# Altium schematic symbol library Semiconductor.SchLib: 45 symbols (part 2 of 2)
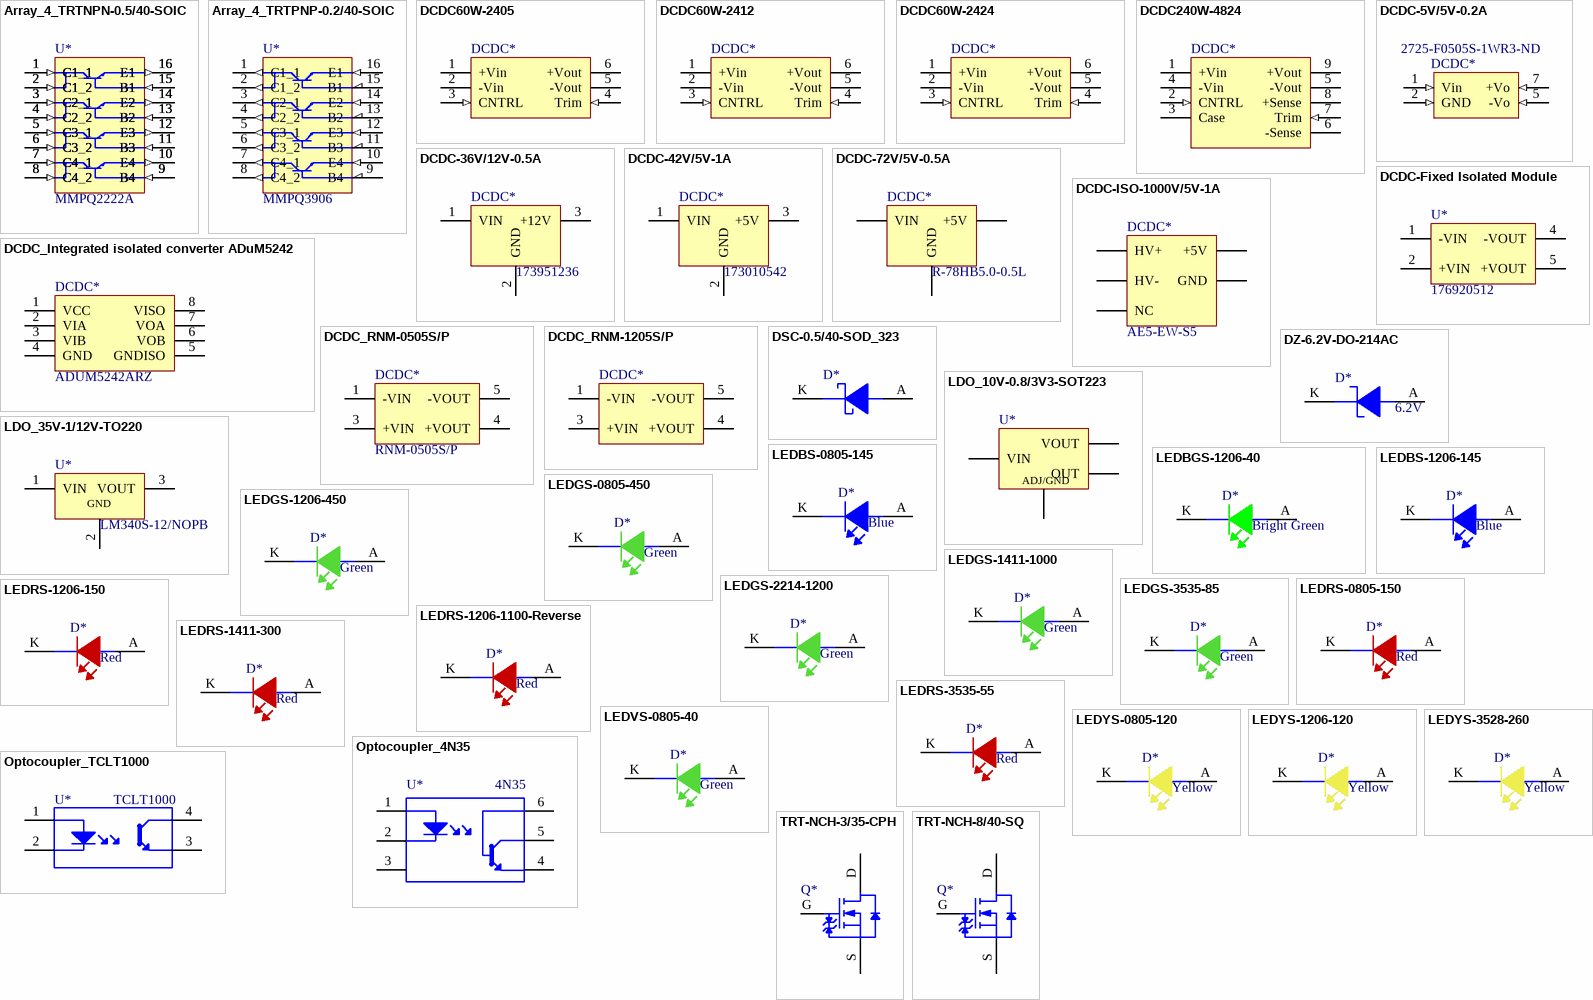
[diagram p2: symbols Array_4_TRTNPN-0.5/40-SOIC to TRT-NCH-8/40-SQ]

## LEDRS-1411-300
designator D*, comment Color: Red  (hidden comment: 150141RS73100)
Led, Red, 625 Nm, 2 V, 30 Ma, 300 Mcd Rohs Compliant: Yes; Manufacturer: Wurth Electronics; Luminous Intensity: 300mcd; Viewing Angle: 120°; Forward Voltage: 2V; Lens Style: Clear,Round; Wavelength: 625nm; Forward Current: 30mA; Test Current: 20mA; .Creator: GP; Category: Diode LED; ComponentLink1Description: Datasheet; ComponentLink1URL: https://www.we-online.com/catalog/datasheet/150141RS73100.pdf; ComponentLink2Description: Where buy it; ComponentLink2URL: https://www.we-online.com/catalog/en/WL-SMTW?sq=150141RS73100#150141RS73100; Supplier 1: Digi-Key; Manufacturer Part Number: 150141RS73100; RoHS: Yes; Stock 1: 6040; Pricing 1: 1=0,19000, 50=0,18200, 100=0,15800, 500=0,12100 (USD); Mount: Surface Mount; Case/Package: 3528; Case Code (Metric): 3528; Case Code (Imperial): 1411; Min Operating Temperature: -40°C; Max Operating Temperature: 85°C; Package Quantity: 2000; Packaging: Tape and Reel; Dominant Wavelength: 625nm; Length: 3.5mm; Width: 2.8mm; Height: 1.9mm; RoHS Compliant: Yes; REACH SVHC: Unknown; Supplier Part Number 1: 732-5000-1-ND
footprint LED_3528-WE (Molded Capacitor, 2-Leads, Body 3,20x2,70mm, IPC Low Density)
pins: A, K

## LEDRS-3535-55
designator D*, comment Color: Red  (hidden comment: 150353RS74500)
High Brightness Led, Wl-Smdc Series, 625 Nm, Red, 55 Lm, 350 Ma; Manufacturer: Wurth Electronics; Forward Current: 700mA; Wavelength: 625nm; Test Temperature: 25°C; Viewing Angle: 125°; Thermal Resistance of Package: 10°C/W; Luminous Flux: 55lm; Test Current: 350mA; Forward Voltage: 2.2V; .Creator: GP; Supplier 1: RSComponents; Manufacturer Part Number: 150353RS74500; RoHS: Yes; Stock 1: 1; Pricing 1: 5=1,40500 (USD); Mount: Surface Mount; Case/Package: SMD/SMT; Packaging: Cut Tape; Max Current Rating: 700mA; REACH SVHC: Unknown; RoHS Compliant: Yes; ComponentLink1URL: http://www.farnell.com/datasheets/1886833.pdf?src-supplier=Farnell; ComponentLink1Description: http://www.farnell.com/datasheets/1886833.pdf?src-supplier=Farnell; ComponentLink2URL: http://www.farnell.com/datasheets/1886833.pdf?src-supplier=Element14; ComponentLink2Description: http://www.farnell.com/datasheets/1886833.pdf?src-supplier=Element14; Supplier Part Number 1: 9008911; ComponentLink3Description: Where buy it; ComponentLink3URL: https://www.we-online.com/catalog/en/WL-SMDC?sq=150353rs74500&sp=https%3A%2F%2Fwww.we-online.com%2Fweb%2Fen%2Fwuerth_elektronik%2Fsearchpage.php%3Fsearch%3D150353rs74500#150353RS74500
footprint LED_3535_WE (DFN, 2-Leads, Body 3,25x3,25mm, Pitch 2,28mm, IPC Medium Density)
pins: A, K

## LEDVS-0805-40
designator D*, comment Color: Green  (hidden comment: 150080VS75000)
Led, Green, 570 Nm, 2 V, 30 Ma, 40 Mcd Rohs Compliant: Yes; Manufacturer 1: Wurth Electronics; Luminous Intensity: 40mcd; Forward Current: 30mA; Forward Voltage: 2V; Viewing Angle: 140°; Wavelength: 570nm; Lens Style: Clear,Rectangular; Test Current: 20mA; .Creator: DR; ComponentLink1Description: Datasheet; ComponentLink1URL: https://www.we-online.com/catalog/datasheet/150080VS75000.pdf; ComponentLink2Description: Where buy it; ComponentLink2URL: https://katalog.we-online.de/en/led/WL-SMCW/150080VS75000; Supplier 1: RSComponents; Manufacturer Part Number 1: 150080VS75000; RoHS: Yes; Category: LEDs; Stock 1: 850; Pricing 1: 50=0,19300, 500=0,12900, 1000=0,12300, 2000=0,11700, 4000=0,11100 (USD); Mount: Surface Mount; Case/Package: 0805; Case Code (Metric): 2012; Case Code (Imperial): 0805; Min Operating Temperature: -40°C; Max Operating Temperature: 85°C; Package Quantity: 4000; Packaging: Tape and Reel; Dominant Wavelength: 570nm; Length: 2mm; Width: 1.25mm; Height: 0.7mm; REACH SVHC: Unknown; ComponentLink3URL: https://datasheet.ciiva.com/22656/150080vs75000-22656966.pdf?src-supplier=Element14; ComponentLink3Description: https://datasheet.ciiva.com/22656/150080vs75000-22656966.pdf?src-supplier=Element14; ComponentLink4URL: https://datasheet.ciiva.com/29279/759437-da-01-en-chipled-0805-w-kl-h-gruen-150080vs7500-29279047.pdf?src-supplier=Conrad; ComponentLink4Description: https://datasheet.ciiva.com/29279/759437-da-01-en-chipled-0805-w-kl-h-gruen-150080vs7500-29279047.pdf?src-supplier=Conrad; ComponentLink5URL: https://datasheet.ciiva.com/29563/150080vs75000-29563018.pdf?src-supplier=Digi-Key; ComponentLink5Description: https://datasheet.ciiva.com/29563/150080vs75000-29563018.pdf?src-supplier=Digi-Key; Supplier Part Number 1: 8154237
footprint LED_0805_WE (SODFL, 2-Leads, Body 1,60x3,20mm, IPC Medium Density)
pins: A, K

## LEDYS-0805-120
designator D*, comment Color: Yellow  (hidden comment: 150080YS75000)
2 V Yellow LED 2012 (0805) SMD, Wurth Elektronik WL-SMCW 150080YS75000; Manufacturer 1: Wurth Electronics; Luminous Intensity: 120mcd; Forward Current: 30mA; Forward Voltage: 2V; Viewing Angle: 140°; Wavelength: 590nm; Lens Style: Clear,Rectangular; Test Current: 20mA; .Creator: DR; ComponentLink1Description: Datasheet; ComponentLink1URL: https://www.we-online.com/catalog/datasheet/150080YS75000.pdf; ComponentLink2Description: Where buy it; ComponentLink2URL: https://katalog.we-online.de/en/led/WL-SMCW/150080YS75000; Supplier 1: RSComponents; Manufacturer Part Number 1: 150080YS75000; RoHS: Yes; Category: LEDs; Stock 1: 2100; Pricing 1: 50=0,19300, 500=0,12900, 750=0,12300, 1500=0,11700, 3000=0,11100 (USD); Mount: Surface Mount; Case/Package: 0805; Case Code (Metric): 2012; Case Code (Imperial): 0805; Min Operating Temperature: -40°C; Max Operating Temperature: 85°C; Package Quantity: 4000; Packaging: Tape and Reel; Dominant Wavelength: 590nm; Length: 2mm; Width: 1.25mm; Height: 0.7mm; REACH SVHC: Unknown; RoHS Compliant: Yes; ComponentLink3URL: https://datasheet.ciiva.com/23843/150080ys75000-23843256.pdf?src-supplier=Newark; ComponentLink3Description: https://datasheet.ciiva.com/23843/150080ys75000-23843256.pdf?src-supplier=Newark; ComponentLink4URL: https://datasheet.ciiva.com/29279/759438-da-01-en-chipled-0805-w-kl-gelb-150080ys75000-29279034.pdf?src-supplier=Conrad; ComponentLink4Description: https://datasheet.ciiva.com/29279/759438-da-01-en-chipled-0805-w-kl-gelb-150080ys75000-29279034.pdf?src-supplier=Conrad; ComponentLink5URL: https://datasheet.ciiva.com/22656/1911353-22656971.pdf?src-supplier=Element14; ComponentLink5Description: https://datasheet.ciiva.com/22656/1911353-22656971.pdf?src-supplier=Element14; ComponentLink6URL: https://datasheet.ciiva.com/29563/150080ys75000-29563019.pdf?src-supplier=Digi-Key; ComponentLink6Description: https://datasheet.ciiva.com/29563/150080ys75000-29563019.pdf?src-supplier=Digi-Key; ComponentLink7URL: https://datasheet.ciiva.com/29563/150080ys75000-29563020.pdf?src-supplier=Digi-Key; ComponentLink7Description: https://datasheet.ciiva.com/29563/150080ys75000-29563020.pdf?src-supplier=Digi-Key; ComponentLink8URL: https://datasheet.ciiva.com/29563/150080ys75000-29563021.pdf?src-supplier=Digi-Key; ComponentLink8Description: https://datasheet.ciiva.com/29563/150080ys75000-29563021.pdf?src-supplier=Digi-Key; Supplier Part Number 1: 8154231
footprint LED_0805_WE (SODFL, 2-Leads, Body 1,60x3,20mm, IPC Medium Density)
pins: A, K

## LEDYS-1206-120
designator D*, comment Color: Yellow  (hidden comment: 150120YS75000)
Led, Yellow, 590 Nm, 2 V, 30 Ma, 120 Mcd Rohs Compliant: Yes; Manufacturer: Wurth Electronics; Wavelength: 590nm; Luminous Intensity: 120mcd; Forward Current: 30mA; Viewing Angle: 140°; Lens Style: Clear,Rectangular; Test Current: 20mA; Forward Voltage: 2V; .Creator: GP; Supplier 1: Newark; Manufacturer Part Number: 150120YS75000; RoHS: Yes; Category: LEDs; Stock 1: 7333; Pricing 1: 1=0,22700, 5=0,22700, 10=0,22100, 25=0,21300, 50=0,20700, 100=0,18200, 500=0,16200 (USD); Mount: Surface Mount; Case/Package: 1206; Case Code (Metric): 3216; Case Code (Imperial): 1206; Min Operating Temperature: -40°C; Max Operating Temperature: 85°C; Package Quantity: 3000; Packaging: Tape and Reel; Dominant Wavelength: 590nm; Length: 3.2mm; Width: 1.6mm; Height: 0.68mm; REACH SVHC: Unknown; RoHS Compliant: Yes; ComponentLink1URL: https://datasheet.ciiva.com/29561/150120ys75000-29561868.pdf?src-supplier=Digi-Key; ComponentLink1Description: https://datasheet.ciiva.com/29561/150120ys75000-29561868.pdf?src-supplier=Digi-Key; ComponentLink2URL: https://datasheet.ciiva.com/29279/759445-da-01-en-chipled-1206-w-kl-gelb-150120ys75000-29279074.pdf?src-supplier=Conrad; ComponentLink2Description: https://datasheet.ciiva.com/29279/759445-da-01-en-chipled-1206-w-kl-gelb-150120ys75000-29279074.pdf?src-supplier=Conrad; Supplier Part Number 1: 95W3811; ComponentLink3Description: Where buy it; ComponentLink3URL: https://www.we-online.com/catalog/en/WL-SMCW?sq=150120YS75000#150120YS75000
footprint LED_1206_WE (SODFL, 2-Leads, Body 1,60x3,20mm, IPC Medium Density)
pins: A, K

## LEDYS-3528-260
designator D*, comment Color: Yellow  (hidden comment: 150141YS73100)
Led, Yellow, 590 Nm, 2 V, 30 Ma, 300 Mcd Rohs Compliant: Yes; Manufacturer: Wurth Electronics; Viewing Angle: 120°; Lens Style: Clear,Round; Wavelength: 590nm; Luminous Intensity: 300mcd; Forward Voltage: 2V; Forward Current: 30mA; Test Current: 20mA; .Creator: GP; Category: Diode LED; ComponentLink1Description: Datasheet; ComponentLink1URL: https://www.we-online.com/catalog/datasheet/150141YS73100.pdf; ComponentLink2Description: Where buy it; ComponentLink2URL: https://www.we-online.com/catalog/en/WL-SMTW?sq=150141GS73100#150141GS73100; Supplier 1: RSComponents; Manufacturer Part Number: 150141YS73100; RoHS: Yes; Stock 1: 1; Pricing 1: 100=0,18000, 200=0,17000, 500=0,12400, 1000=0,11900, 2000=0,11200 (USD); Mount: Surface Mount; Case/Package: 3528; Number of Pins: 2; Min Operating Temperature: -40°C; Max Operating Temperature: 85°C; Package Quantity: 2000; Packaging: Tape and Reel; Dominant Wavelength: 590nm; Length: 3.2mm; Width: 2.8mm; Height: 2.1mm; REACH SVHC: Unknown; RoHS Compliant: Yes; Supplier Part Number 1: 8154322
footprint LED_3528-WE (Molded Capacitor, 2-Leads, Body 3,20x2,70mm, IPC Low Density)
pins: A, K

## Optocoupler_4N35
designator U*, comment 4N35
Optocoupler DC-IN 1-CH Transistor With Base DC-OUT 6-Pin PDIP SMD T/R; Manufacturer: Vishay Lite-On; Manufacturer Part Number: CNY17-4S-TA1; Number of Channels: 1; Max Power Dissipation: 250mW; Isolation Voltage: 5kV; Output Voltage: 70V; Forward Voltage: 1.65V; Rise Time: 10000ns; Collector Emitter Saturation Voltage: 300mV; Max Input Current: 60mA; Reverse Breakdown Voltage: 6V; Input Type: DC; Current Transfer Ratio: 320%; Output Current per Channel: 150mA; .Creator: DO; Supplier 1: RSComponents; RoHS: Yes; Category: Optocouplers; Stock 1: 1; Pricing 1: 50=0,27200, 250=0,25600, 500=0,24000, 1250=0,22500, 2500=0,21200 (USD); Mount: Surface Mount; Case/Package: SMD/SMT; Number of Pins: 6; Min Operating Temperature: -55°C; Max Operating Temperature: 100°C; Packaging: Tape and Reel; Package Quantity: 1000; Power Dissipation: 250mW; Collector Emitter Voltage (VCEO): 70V; Max Output Voltage: 70V; Number of Elements: 1; Series: -; Forward Current: 60mA; Collector-emitter Voltage-Max: 300mV; Fall Time: 10000ns; Number of Circuits: 1; Max Collector Current: 150mA; Radiation Hardening: No; Lead Free: Lead Free; RoHS Compliant: Yes; ComponentLink1URL: https://datasheet.ciiva.com/15118/getdatasheetpartid-187668-15118874.pdf?src-supplier=Verical; ComponentLink1Description: https://datasheet.ciiva.com/15118/getdatasheetpartid-187668-15118874.pdf?src-supplier=Verical; ComponentLink2URL: https://datasheet.ciiva.com/6573/s-110-cny17-6573733.pdf?src-supplier=Digi-Key; ComponentLink2Description: https://datasheet.ciiva.com/6573/s-110-cny17-6573733.pdf?src-supplier=Digi-Key; Supplier Part Number 1: 1278380P; ComponentLink3Description: Where buy it; ComponentLink3URL: https://es.rs-online.com/web/p/circuitos-integrados-optoacopladores/1257571
footprint Optocoupler_4N35 (SOP, 6-Leads, Body 7,30x6,50mm, Pitch 2,54mm, IPC Medium Density)
pins: 1 A, 2 K, 3 C, 4 E, 5 E, 6 E

## Optocoupler_TCLT1000
designator U*  Supplier Part Number 1: TCLT1000
Optocoupler DC-IN 1-CH Transistor DC-OUT 4-Pin SOP T/R; Manufacturer: Vishay Semiconductors; Number of Channels: 1; Collector Emitter Voltage (VCEO): 70V; Reverse Breakdown Voltage: 6V; Forward Voltage: 1.6V; Forward Current: 60mA; Max Power Dissipation: 250mW; Rise Time: 3s; Output Current per Channel: 50mA; Collector Emitter Saturation Voltage: 300mV; Isolation Voltage: 5kV; Fall Time: 4.7s; Current Transfer Ratio: 600%; Approvals: UL; Supplier 1: Arrow Electronics; Manufacturer Part Number: TCLT1000; RoHS: Yes; Category: Optocouplers; Stock 1: 9000; Pricing 1: 3000=0,24220, 6000=0,23440 (USD); Mount: Surface Mount,PCB; Case/Package: SOP; Number of Pins: 4; Min Operating Temperature: -40°C; Max Operating Temperature: 100°C; Package Quantity: 1; Packaging: Tape and Reel; Output Voltage: 70V; Max Output Voltage: 70V; Max Collector Current: 50mA; Number of Elements: 1; Power Dissipation: 250mW; Max Input Current: 60mA; Collector Emitter Breakdown Voltage: 70V; Input Current: 50mA; Voltage Rating (DC): 70V; Radiation Hardening: No; REACH SVHC: Unknown; Lead Free: Lead Free; RoHS Compliant: Yes; ComponentLink1URL: https://datasheet.ciiva.com/11771/0900766b80e30925-11771693.pdf?src-supplier=RSComponents; ComponentLink1Description: https://datasheet.ciiva.com/11771/0900766b80e30925-11771693.pdf?src-supplier=RSComponents; ComponentLink2URL: https://datasheet.ciiva.com/8040/52022-8040864.pdf?src-supplier=Element14; ComponentLink2Description: https://datasheet.ciiva.com/8040/52022-8040864.pdf?src-supplier=Element14; ComponentLink3URL: https://datasheet.ciiva.com/15118/getdatasheetpartid-145514-15118804.pdf?src-supplier=Verical; ComponentLink3Description: https://datasheet.ciiva.com/15118/getdatasheetpartid-145514-15118804.pdf?src-supplier=Verical; ComponentLink4URL: https://datasheet.ciiva.com/26321/tclt1000-26321177.pdf?src-supplier=Element14; ComponentLink4Description: https://datasheet.ciiva.com/26321/tclt1000-26321177.pdf?src-supplier=Element14; ComponentLink5URL: https://datasheet.ciiva.com/5783/tclt1000-5783658.pdf?src-supplier=Farnell; ComponentLink5Description: https://datasheet.ciiva.com/5783/tclt1000-5783658.pdf?src-supplier=Farnell; ComponentLink6URL: https://datasheet.ciiva.com/8091/tclt1000-8091688.pdf?src-supplier=Avnet; ComponentLink6Description: https://datasheet.ciiva.com/8091/tclt1000-8091688.pdf?src-supplier=Avnet; ComponentLink7URL: https://datasheet.ciiva.com/16493/tclt1000-16493446.pdf?src-supplier=Future+Electronics; ComponentLink7Description: https://datasheet.ciiva.com/16493/tclt1000-16493446.pdf?src-supplier=Future+Electronics
footprint Optocoupler_TCLT1000
pins: 1 A, 2 K, 3 C, 4 E

## TRT-NCH-3/35-CPH
designator Q*, comment CPH3455-TL-H  (value not drawn)
CPH3455-TL-H N-channel MOSFET Transistor; 3 A; 35 V; 3-Pin CPH; Manufacturer: ON Semiconductor; Rds On Max: 104mR; Input Capacitance: 186pF; Rise Time: 4.7ns; Drain to Source Voltage (Vdss): 35V; Continuous Drain Current (ID): 3A; Max Power Dissipation: 1W; Drain to Source Resistance: 108mR; Turn-On Delay Time: 4.2ns; Turn-Off Delay Time: 15ns; Fall Time: 5.7ns; Element Configuration: Single; Gate to Source Voltage (Vgs): 20V; .Creator: GP; Category: Transistor; ComponentLink1Description: Datasheet; ComponentLink1URL: https://docs.rs-online.com/5847/0900766b812d514d.pdf; ComponentLink2Description: Where buy it; ComponentLink2URL: https://es.rs-online.com/web/p/mosfet/8009989; Supplier 1: RSComponents; Manufacturer Part Number: CPH3455-TL-H; RoHS: Yes; Stock 1: 1; Pricing 1: 50=0,50400 (USD); Case/Package: SC; Number of Pins: 3; Min Operating Temperature: -55°C; Max Operating Temperature: 150°C; Package Quantity: 3000; Packaging: Tape and Reel; Drain to Source Breakdown Voltage: 35V; Power Dissipation: 1W; Polarity: N-CHANNEL; Series: -; Length: 2.9mm; Width: 1.6mm; Height: 0.9mm; Lead Free: Lead Free; Halogen Free: Halogen Free; RoHS Compliant: Yes; ComponentLink3URL: https://datasheet.ciiva.com/947/cph3455-d-947201.pdf?src-supplier=Digi-Key; ComponentLink3Description: https://datasheet.ciiva.com/947/cph3455-d-947201.pdf?src-supplier=Digi-Key; ComponentLink4URL: https://datasheet.ciiva.com/4444/cph3455-d-91653-4444616.pdf?src-supplier=Mouser; ComponentLink4Description: https://datasheet.ciiva.com/4444/cph3455-d-91653-4444616.pdf?src-supplier=Mouser; ComponentLink5URL: https://datasheet.ciiva.com/11164/cph3455-d-11164889.pdf?src-supplier=Avnet; ComponentLink5Description: https://datasheet.ciiva.com/11164/cph3455-d-11164889.pdf?src-supplier=Avnet; Supplier Part Number 1: 8009989
footprint TRT-NCH-3/35-CPH (SOT23, 3-Leads, Body 2,90x2,80mm, Pitch 0,95mm, IPC Low Density)
pins: D, G, S

## TRT-NCH-8/40-SQ
designator Q*, comment SQ2318BES-T1_GE3  (value not drawn)
Automotive N-channel 40 V (d-s) 175C Mosfet SOT-23; Manufacturer 1: Vishay; Id: 8A; Vds: 40V; .Creator: DO; Supplier 1: Newark; Manufacturer Part Number 1: SQ2318BES-T1_GE3; RoHS: No; Pricing 1: 1=0,71500, 5=0,71500, 10=0,64400, 25=0,59000, 50=0,52500, 100=0,47100, 250=0,40800 (USD); Supplier Part Number 1: 81AH9290; ComponentLink1Description: Where to buy; ComponentLink1URL: https://www.mouser.es/ProductDetail/Vishay-Siliconix/SQ2318BES-T1_GE3?qs=sPbYRqrBIVmyZcxPsDt0vA%3D%3D; ComponentLink2Description: Datasheet; ComponentLink2URL: https://www.mouser.es/datasheet/2/427/sq2318bes-1868475.pdf
footprint TRT-NCH-3/35-CPH (SOT23, 3-Leads, Body 2,90x2,80mm, Pitch 0,95mm, IPC Low Density)
pins: D, G, S

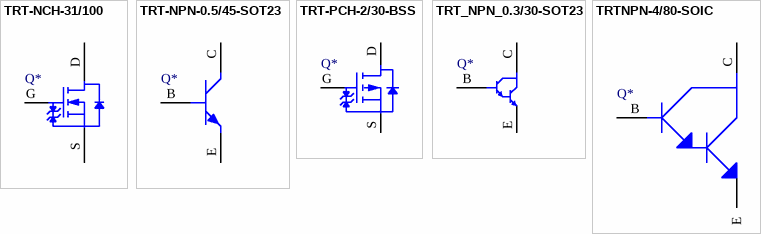
[diagram p1: symbols TRT-NCH-31/100 to TRTNPN-4/80-SOIC]

## TRT-NCH-31/100
designator Q*, comment SQ2318BES-T1_GE3  (value not drawn)
MOSFET N-CH 100V 31A DPAK; Manufacturer 1: Infineon; Manufacturer Part Number 1: IRFR3410TRPBF; Power Dissipation: 110W; Gate to Source Voltage (Vgs): 20V; Rds On Max: 39mR; Input Capacitance: 1.69nF; Max Power Dissipation: 3W; Turn-Off Delay Time: 40ns; Turn-On Delay Time: 12ns; Threshold Voltage: 4V; Polarization: N; ComponentLink2Description: Datasheet; ComponentLink2URL: https://www.mouser.es/datasheet/2/427/sq2318bes-1868475.pdf; Supplier 1: Farnell; RoHS: Yes; Category: MOSFETs; Stock 1: 4070; Pricing 1: 1=1,20000, 10=1,08000, 100=0,84200, 500=0,69600 (EUR); Mount: Surface Mount; Case/Package: TO-252-3; Number of Pins: 3; Min Operating Temperature: -55°C; Max Operating Temperature: 175°C; Continuous Drain Current (ID): 31A; Packaging: Cut Tape; Drain to Source Voltage (Vdss): 100V; Drain to Source Resistance: 39mR; Drain to Source Breakdown Voltage: 100V; Series: HEXFET®; Max Dual Supply Voltage: 100V; Length: 0.264inch; Width: 0.245inch; Height: 0.094inch; Lead Free: Contains Lead; RoHS Compliant: Yes; Reach SVHC Compliant: Yes; Halogen Free: Halogen Free; Supplier Part Number 1: 2468036
footprint TRT-NCH-D2PAK (SOT23, 3-Leads, Body 2,90x2,80mm, Pitch 0,95mm, IPC Low Density)
pins: D, G, S

## TRT-NPN-0.5/45-SOT23
designator Q*, comment BC817-25LT1G  (value not drawn)
ON Semi BC817-25LT1G NPN Bipolar Transistor; 0.5 A; 45 V; 3-Pin SOT-23; Collector Emitter Voltage (VCEO): 45V; Max Collector Current: 500mA; Collector Base Voltage (VCBO): 50V; Power Dissipation: 300mW; hFE Min: 160; Transition Frequency: 100MHz; Emitter Base Voltage (VEBO): 5V; Element Configuration: Single; Collector-emitter Voltage-Max: 700mV; Number of Elements: 1; .Creator: GP; Category: Transistor; ComponentLink1Description: Datasheet; ComponentLink1URL: *; ComponentLink2Description: Where buy it; ComponentLink2URL: *; Package: *; Type: *; Manufacturer: *; Manufacturer part number: *; Supplier: *; Packaging: *; Max operating temperature: *; Min operating temperature: *; Max power dissipation: *; Power rating: *; RoHS: *; Polarity: *; Vce max: *; Ic max: *; Gain: *; Supplier 1: Digi-Key; Pricing 1: 1=0,20000, 10=0,18500, 100=0,10080, 500=0,06204, 1000=0,04229 (USD); Case/Package: SOT-23-3; Number of Pins: 3; Contact Plating: Tin,Matte; Package Quantity: 1; Collector Emitter Breakdown Voltage: 45V; Max Breakdown Voltage: 45V; Max Frequency: 100MHz; Current Rating: 500mA; Series: -; Frequency: 100MHz; Collector Emitter Saturation Voltage: 700mV; Gain Bandwidth Product: 100MHz; Length: 2.9mm; Width: 1.3mm; Height: 0.94mm; Radiation Hardening: No; Lead Free: Lead Free; Halogen Free: Halogen Free; RoHS Compliant: Yes; REACH SVHC: No SVHC; ComponentLink3URL: https://datasheet.ciiva.com/27748/2010413-27748829.pdf?src-supplier=Jameco; ComponentLink3Description: https://datasheet.ciiva.com/27748/2010413-27748829.pdf?src-supplier=Jameco; ComponentLink4URL: https://datasheet.ciiva.com/15138/getdatasheetpartid-38405-15138602.pdf?src-supplier=Verical; ComponentLink4Description: https://datasheet.ciiva.com/15138/getdatasheetpartid-38405-15138602.pdf?src-supplier=Verical; ComponentLink5URL: https://datasheet.ciiva.com/1196/bc817-16lt1-d-1196558.pdf?src-supplier=Element14; ComponentLink5Description: https://datasheet.ciiva.com/1196/bc817-16lt1-d-1196558.pdf?src-supplier=Element14; ComponentLink6URL: https://datasheet.ciiva.com/22641/bc817-16lt1-d-22641013.pdf?src-supplier=Farnell; ComponentLink6Description: https://datasheet.ciiva.com/22641/bc817-16lt1-d-22641013.pdf?src-supplier=Farnell; ComponentLink7URL: https://datasheet.ciiva.com/22664/bc817-16lt1-d-22664204.pdf?src-supplier=Element14; ComponentLink7Description: https://datasheet.ciiva.com/22664/bc817-16lt1-d-22664204.pdf?src-supplier=Element14; ComponentLink8URL: https://datasheet.ciiva.com/22664/1842041-22664101.pdf?src-supplier=Element14; ComponentLink8Description: https://datasheet.ciiva.com/22664/1842041-22664101.pdf?src-supplier=Element14; ComponentLink9URL: https://datasheet.ciiva.com/4722/bc817-16lt1-d-104560-4722229.pdf?src-supplier=Mouser; ComponentLink9Description: https://datasheet.ciiva.com/4722/bc817-16lt1-d-104560-4722229.pdf?src-supplier=Mouser; ComponentLink10URL: https://datasheet.ciiva.com/1195/bc817-16lt1-d-1195763.pdf?src-supplier=Element14; ComponentLink10Description: https://datasheet.ciiva.com/1195/bc817-16lt1-d-1195763.pdf?src-supplier=Element14; ComponentLink11URL: https://datasheet.ciiva.com/1195/bc817-16lt1-d-1195764.pdf?src-supplier=Element14; ComponentLink11Description: https://datasheet.ciiva.com/1195/bc817-16lt1-d-1195764.pdf?src-supplier=Element14; ComponentLink12URL: https://datasheet.ciiva.com/11197/bc817-16lt1-d-11197514.pdf?src-supplier=Avnet; ComponentLink12Description: https://datasheet.ciiva.com/11197/bc817-16lt1-d-11197514.pdf?src-supplier=Avnet; ComponentLink13URL: https://datasheet.ciiva.com/25996/bc817-16lt1-d-25996327.pdf?src-supplier=Avnet+Europe; ComponentLink13Description: https://datasheet.ciiva.com/25996/bc817-16lt1-d-25996327.pdf?src-supplier=Avnet+Europe; ComponentLink14URL: https://datasheet.ciiva.com/976/bc817-16lt1-d-976357.pdf?src-supplier=Digi-Key; ComponentLink14Description: https://datasheet.ciiva.com/976/bc817-16lt1-d-976357.pdf?src-supplier=Digi-Key; ComponentLink15URL: https://datasheet.ciiva.com/976/bc817-16lt1-d-976358.pdf?src-supplier=Digi-Key; ComponentLink15Description: https://datasheet.ciiva.com/976/bc817-16lt1-d-976358.pdf?src-supplier=Digi-Key; ComponentLink16URL: https://datasheet.ciiva.com/976/bc817-16lt1-d-976356.pdf?src-supplier=Digi-Key; ComponentLink16Description: https://datasheet.ciiva.com/976/bc817-16lt1-d-976356.pdf?src-supplier=Digi-Key; Supplier Part Number 1: BC817-25LT1GOSCT-ND
footprint TRT-NPN-0.5/45-SOT23 (SOT23, 3-Leads, Body 2,92x2,37mm, Pitch 0,95mm, IPC Low Density)
pins: B, C, E

## TRT-PCH-2/30-BSS
designator Q*, comment BSS308PE  (value not drawn)
Infineon’s highly innovative OptiMOS™ families include p-channel power MOSFETs, SOT-23-3, RoHS; Manufacturer Part Number: BSS308PEH6327; Continuous Drain Current (ID): 2A; Input Capacitance: 500pF; Drain to Source Voltage (Vdss): 30V; Max Power Dissipation: 500mW; Gate to Source Voltage (Vgs): 20V; Rds On Max: 80mR; Rise Time: 7.7ns; Turn-Off Delay Time: 15.3ns; Fall Time: 2.8ns; Turn-On Delay Time: 5.6ns; Threshold Voltage: -1.5V; .Creator: DO; Supplier 1: RSComponents; Manufacturer: Infineon; RoHS: Yes; Category: MOSFETs; Stock 1: 4000; Pricing 1: 50=0,50300, 100=0,26400, 250=0,25900, 500=0,25200, 1000=0,24700 (USD); Mount: Surface Mount; Case/Package: TO-236-3; Number of Pins: 3; Min Operating Temperature: -55°C; Max Operating Temperature: 150°C; Packaging: Tape and Reel; Package Quantity: 1; Series: OptiMOS™; REACH SVHC: No SVHC; ComponentLink1URL: https://datasheet.ciiva.com/6379/infineon-bss308pe-ds-v02-03-en-6379920.pdf?src-supplier=Digi-Key; ComponentLink1Description: datasheet; ComponentLink2URL: https://datasheet.ciiva.com/11171/infineon-bss308pe-ds-v02-03-en-11171385.pdf?src-supplier=Avnet; ComponentLink2Description: https://datasheet.ciiva.com/11171/infineon-bss308pe-ds-v02-03-en-11171385.pdf?src-supplier=Avnet; Supplier Part Number 1: 8235500
footprint TRT-PCH-2/30-BSS (SOT23, 3-Leads, Body 2,90x2,80mm, Pitch 0,95mm, IPC Low Density)
pins: D, G, S

## TRT_NPN_0.3/30-SOT23
designator Q*, comment MMBTA14LT1G  (value not drawn)
MMBT Series 30 V 300 mA NPN Silicon Darlington Amplifier Transistor - SOT-23; Manufacturer: ON Semiconductor; Collector Emitter Voltage (VCEO): 30V; Number of Elements: 1; Max Power Dissipation: 225mW; Max Collector Current: 300mA; Transition Frequency: 125MHz; Emitter Base Voltage (VEBO): 10V; Collector Emitter Saturation Voltage: 1.5V; Element Configuration: Single; hFE Min: 10000; .Creator: GP; Supplier 1: RSComponents; Manufacturer Part Number: MMBTA14LT1G; RoHS: Yes; Category: Transistor; Stock 1: 300; Pricing 1: 100=0,11400, 200=0,09700, 500=0,08400, 1000=0,07200, 2000=0,07000 (USD); Case/Package: SOT-23-3; Number of Pins: 3; Contact Plating: Tin,Matte; Weight: 0.050717oz; Min Operating Temperature: -55°C; Max Operating Temperature: 150°C; Package Quantity: 3000; Packaging: Tape and Reel; Collector Emitter Breakdown Voltage: 30V; Polarity: NPN; Collector Base Voltage (VCBO): 30V; Continuous Collector Current: 300mA; Max Breakdown Voltage: 30V; Voltage Rating (DC): 30V; Current Rating: 300mA; Length: 2.9mm; Width: 1.3mm; Height: 0.94mm; Radiation Hardening: No; Lead Free: Lead Free; Halogen Free: Halogen Free; RoHS Compliant: Yes; REACH SVHC: No SVHC; ComponentLink1URL: https://datasheet.ciiva.com/976/mmbta13lt1-d-976480.pdf?src-supplier=Digi-Key; ComponentLink1Description: https://datasheet.ciiva.com/976/mmbta13lt1-d-976480.pdf?src-supplier=Digi-Key; ComponentLink2URL: https://datasheet.ciiva.com/15139/getdatasheetpartid-53250-15139889.pdf?src-supplier=Verical; ComponentLink2Description: https://datasheet.ciiva.com/15139/getdatasheetpartid-53250-15139889.pdf?src-supplier=Verical; ComponentLink3URL: https://datasheet.ciiva.com/26001/mmbta13lt1-d-26001142.pdf?src-supplier=Avnet+Europe; ComponentLink3Description: https://datasheet.ciiva.com/26001/mmbta13lt1-d-26001142.pdf?src-supplier=Avnet+Europe; ComponentLink4URL: https://datasheet.ciiva.com/16471/mmbta13lt1-d-16471918.pdf?src-supplier=Avnet+Asia; ComponentLink4Description: https://datasheet.ciiva.com/16471/mmbta13lt1-d-16471918.pdf?src-supplier=Avnet+Asia; ComponentLink5URL: https://datasheet.ciiva.com/976/mmbta13lt1-d-976481.pdf?src-supplier=Digi-Key; ComponentLink5Description: https://datasheet.ciiva.com/976/mmbta13lt1-d-976481.pdf?src-supplier=Digi-Key; ComponentLink6URL: https://datasheet.ciiva.com/976/mmbta13lt1-d-976479.pdf?src-supplier=Digi-Key; ComponentLink6Description: https://datasheet.ciiva.com/976/mmbta13lt1-d-976479.pdf?src-supplier=Digi-Key; Supplier Part Number 1: 7814281
footprint TRT_NPN_0.3/30-SOT23 (SOT23, 3-Leads, Body 2,92x2,37mm, Pitch 0,95mm, IPC Low Density)
pins: B, C, E

## TRTNPN-4/80-SOIC
designator Q*, comment MJD6039T4G  (value not drawn)
MJD Series 80 V 4 A NPN Darlington Power Transistor TO-252-3; Manufacturer: ON Semiconductor; Collector Emitter Voltage (VCEO): 80V; Max Collector Current: 4A; Max Power Dissipation: 1.75W; Emitter Base Voltage (VEBO): 5V; Power Dissipation: 20W; Number of Elements: 1; Collector Emitter Saturation Voltage: 2.5V; Element Configuration: Single; .Creator: DO; Supplier 1: Newark; RoHS: Yes; Category: BJTs; Stock 1: 2464; Pricing 1: 5=1,03000, 10=0,89200, 100=0,63500 (USD); Case/Package: DPAK; Number of Pins: 3; Contact Plating: Tin,Matte; Min Operating Temperature: -65°C; Max Operating Temperature: 150°C; Packaging: Tape and Reel; Collector Emitter Breakdown Voltage: 80V; Polarity: NPN; Package Quantity: 1; Collector Base Voltage (VCBO): 80V; Continuous Collector Current: 4A; Max Breakdown Voltage: 80V; Voltage Rating (DC): 80V; Current Rating: 4A; Series: -; Collector-emitter Voltage-Max: 2.5V; Radiation Hardening: No; Lead Free: Lead Free; Halogen Free: Halogen Free; RoHS Compliant: Yes; ComponentLink1URL: https://datasheet.ciiva.com/11211/mjd6039-d-11211425.pdf?src-supplier=Avnet; ComponentLink1Description: https://datasheet.ciiva.com/11211/mjd6039-d-11211425.pdf?src-supplier=Avnet; ComponentLink2URL: https://datasheet.ciiva.com/981/mjd6039-d-981235.pdf?src-supplier=Digi-Key; ComponentLink2Description: https://datasheet.ciiva.com/981/mjd6039-d-981235.pdf?src-supplier=Digi-Key; ComponentLink3URL: https://datasheet.ciiva.com/26000/mjd6039-d-26000506.pdf?src-supplier=Avnet+Europe; ComponentLink3Description: https://datasheet.ciiva.com/26000/mjd6039-d-26000506.pdf?src-supplier=Avnet+Europe; ComponentLink4URL: https://datasheet.ciiva.com/981/mjd6039-d-981236.pdf?src-supplier=Digi-Key; ComponentLink4Description: https://datasheet.ciiva.com/981/mjd6039-d-981236.pdf?src-supplier=Digi-Key; ComponentLink5URL: https://datasheet.ciiva.com/16462/mjd6039-d-16462236.pdf?src-supplier=Future+Electronics; ComponentLink5Description: https://datasheet.ciiva.com/16462/mjd6039-d-16462236.pdf?src-supplier=Future+Electronics; Supplier Part Number 1: 30AC9901; ComponentLink6Description: Where buy it; ComponentLink6URL: https://www.mouser.es/ProductDetail/onsemi/MJD6039T4G?qs=HVbQlW5zcXXDhrS5GyjIxw%3D%3D; Manufacturer Part Number: MJD6039T4G
pins: B, C, E